# EAGLE library part 20-IDC (library comma.ai)
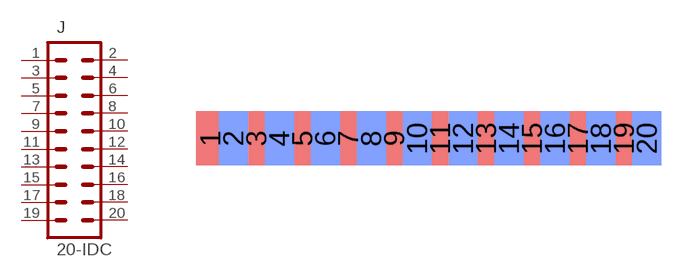
[diagram p42: symbol with the pads of 20-IDC-SIDEMOUNT; footprint 20-IDC-SIDEMOUNT]

Designator prefix J

## 20-IDC  [20-IDC-SIDEMOUNT]
1  1  pas
2  2  pas
3  3  pas
4  4  pas
5  5  pas
6  6  pas
7  7  pas
8  8  pas
9  9  pas
10  10  pas
11  11  pas
12  12  pas
13  13  pas
14  14  pas
15  15  pas
16  16  pas
17  17  pas
18  18  pas
19  19  pas
20  20  pas

## Footprint 20-IDC-SIDEMOUNT (pad centres in mm)
smd 1.6 x 3: 1 -11.43,0; 3 -8.89,0; 5 -6.35,0; 7 -3.81,0; 9 -1.27,0; 11 1.27,0; 13 3.81,0; 15 6.35,0; 17 8.89,0; 19 11.43,0
smd 1.6 x 3 bottom: 2 -10.16,0; 4 -7.62,0; 6 -5.08,0; 8 -2.54,0; 10 0,0; 12 2.54,0; 14 5.08,0; 16 7.62,0; 18 10.16,0; 20 12.7,0